# EAGLE library part CONNECTOR_10PIN (library pixel_masterlib)
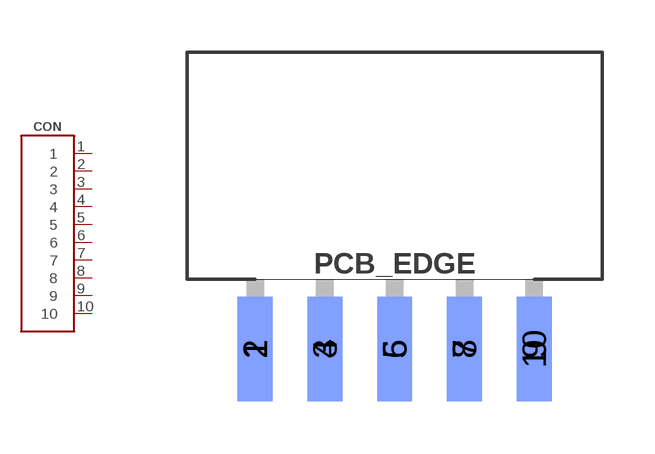
[diagram p8: symbol with the pads of 2MM_10PIN_2ROW_CON; footprint 2MM_10PIN_2ROW_CON]

Designator prefix CON

## CONNECTOR_10PIN  [2MM_10PIN_2ROW_CON]
1  1
2  2
3  3
4  4
5  5
6  6
7  7
8  8
9  9
10  10

## Footprint 2MM_10PIN_2ROW_CON (pad centres in mm)
smd 1 x 3: 1 -4,-0.25; 3 -2,-0.25; 5 0,-0.25; 7 2,-0.25; 9 4,-0.25
smd 1 x 3 bottom: 2 -4,-0.25; 4 -2,-0.25; 6 0,-0.25; 8 2,-0.25; 10 4,-0.25